# EAGLE library part TH3122.4 (library ICs)
The TH3122 consists of a low drop voltage regulator 5V/100mA and a K-Bus transceiver. The transceiver is suitable for K-Bus systems conform to ISO 9141.
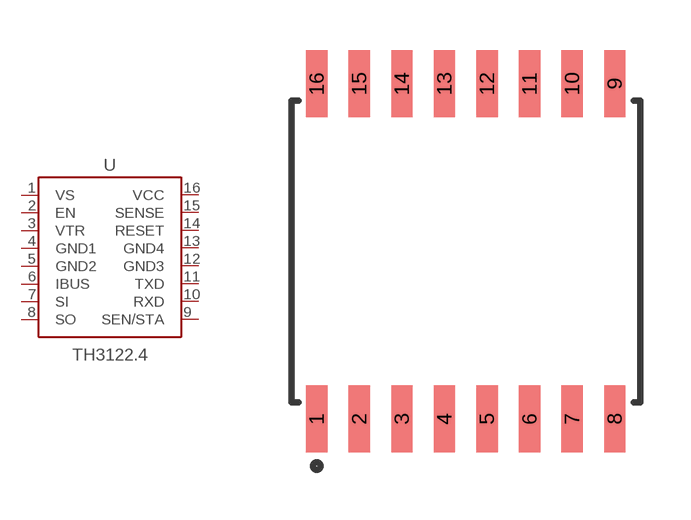
[diagram p6: symbol with the pads of SOIC16DF; footprint SOIC16DF]

Designator prefix U

## TH3122.4 (MFG: Melexis; PN: TH3122.4; VALUE: TH3122.4)  [SOIC16DF]
1  VS  pwr
2  EN  in
3  VTR  in
4  GND1  pas
5  GND2  pas
6  IBUS
7  SI
8  SO  out
9  SEN/STA
10  RXD  out
11  TXD  in
12  GND3  pas
13  GND4  pas
14  RESET  out
15  SENSE
16  VCC  pas

## Footprint SOIC16DF (pad centres in mm)
SMALL OUTLINE INTEGRATED CIRCUIT 16-Pin (300-Mil) SOIC
smd 0.635 x 2: 1 -4.45,-5; 2 -3.18,-5; 3 -1.91,-5; 4 -0.64,-5; 5 0.63,-5; 6 1.9,-5; 7 3.17,-5; 8 4.44,-5; 9 4.44,5; 10 3.17,5; 11 1.9,5; 12 0.63,5; 13 -0.64,5; 14 -1.91,5; 15 -3.18,5; 16 -4.45,5